# Altium footprint library PER561P115N0015.PcbLib: 1 footprints
Each footprint in its own frame and in the unit in brackets; x right, y up, seen from the top. Pads: shape width x height; smd on the part's side, far side on the other; paste and mask are expansions set on the pad; w line width, h text height; cw(c..) or ccw(c..) is an arc to the next point about the centre after c.
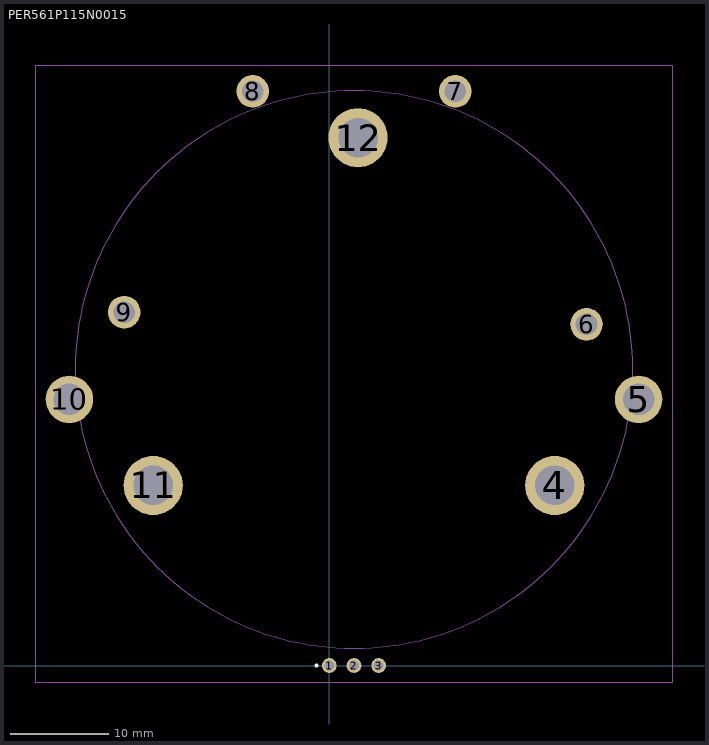
[diagram p0: the footprint, top view; thin cyan lines are the x and y axes]

## PER561P115N0015 [mm]
pads (12):
  round 1.5 hole 1: 1(0,0) 2(2.5,0) 3(5,0)
  round 6 hole 4: 4(22.846,18.253) 11(-17.846,18.253) 12(2.91,53.493)
  round 4.8 hole 3.2: 5(31.341,26.969) 10(-26.341,26.969)
  round 3.3 hole 2.2: 6(26.059,34.579) 7(12.761,58.191) 8(-7.761,58.191) 9(-20.787,35.806)
Top Overlay:
  lines w0.2: -1.3,-0.1 cw(c-1.3,0) -1.3,0.1 ; -1.3,-0.1 -1.3,-0.1 ; -1.3,-0.1 ccw(c-1.3,0) -1.3,0.1 ; -1.3,0.1 -1.3,0.1
Mechanical 15:
  lines w0.1: -25.75,30 -25.75,30 ; -25.75,30 ccw(c2.5,30) 30.75,30 ; -25.75,30 cw(c2.5,30) 30.75,30 ; 30.75,30 30.75,30
Mechanical 20:
  lines w0.1: -29.741,-1.75 34.741,-1.75 34.741,60.841 -29.741,60.841 -29.741,-1.75